# Altium schematic symbol library BSS123_.Schlib: 1 symbol
Pins are listed as number, name and electrical type; pins without a type are passive.

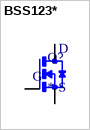
[diagram p0: symbol BSS123*]

## BSS123*
designator Q?
N-Channel 100 V 170mA (Ta) 225mW (Ta) Surface Mount SOT-23-3 (TO-236)
pins: 1 G, 2 S, 3 D